# Altium footprint library TMM-125-XX-XX-D-SM.PcbLib: 1 footprints
Each footprint in its own frame and in the unit in brackets; x right, y up, seen from the top. Pads: shape width x height; smd on the part's side, far side on the other; paste and mask are expansions set on the pad; w line width, h text height; cw(c..) or ccw(c..) is an arc to the next point about the centre after c.
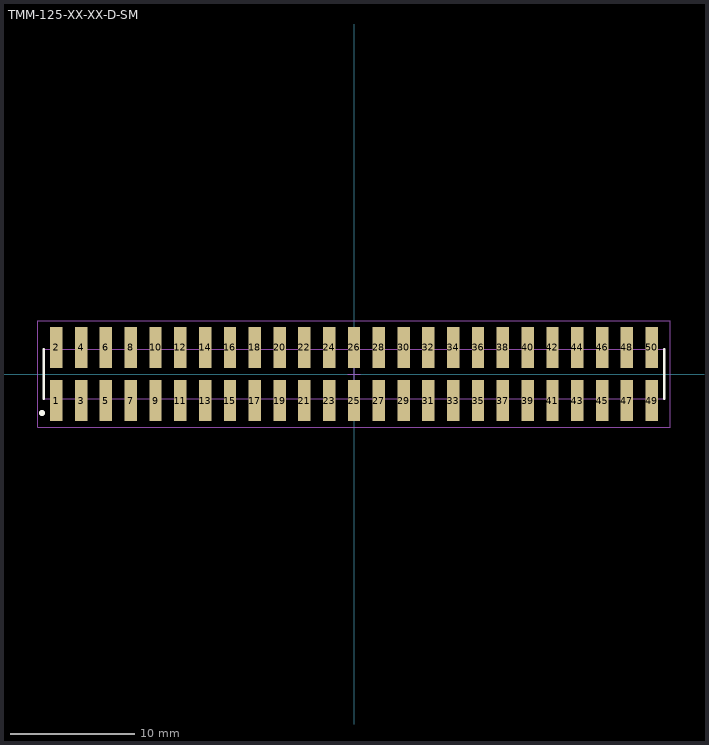
[diagram p0: the footprint, top view; thin cyan lines are the x and y axes]

## TMM-125-XX-XX-D-SM [mm] "2.00mm pitch, 50 pin, terminal strip; double row, SMT"
height 2.77
pads (50):
  rect 1x3.3 smd mask+0: 1(-24,-2.15) 2(-24,2.15) 3(-22,-2.15) 4(-22,2.15) 5(-20,-2.15) 6(-20,2.15) 7(-18,-2.15) 8(-18,2.15) 9(-16,-2.15) 10(-16,2.15) 11(-14,-2.15) 12(-14,2.15) 13(-12,-2.15) 14(-12,2.15) 15(-10,-2.15) 16(-10,2.15) 17(-8,-2.15) 18(-8,2.15) 19(-6,-2.15) 20(-6,2.15) 21(-4,-2.15) 22(-4,2.15) 23(-2,-2.15) 24(-2,2.15) 25(0,-2.15) 26(0,2.15) 27(2,-2.15) 28(2,2.15) 29(4,-2.15) 30(4,2.15) 31(6,-2.15) 32(6,2.15) 33(8,-2.15) 34(8,2.15) 35(10,-2.15) 36(10,2.15) 37(12,-2.15) 38(12,2.15) 39(14,-2.15) 40(14,2.15) 41(16,-2.15) 42(16,2.15) 43(18,-2.15) 44(18,2.15) 45(20,-2.15) 46(20,2.15) 47(22,-2.15) 48(22,2.15) 49(24,-2.15) 50(24,2.15)
Top Overlay:
  circle w0.25: c-25.15,-3.15 r0.125
  lines w0.2: -25,-2 -25,2 ; 25,-2 25,2
Mechanical 12:
  lines w0.001: -25,-2 -25,2 25,2 25,-2 -25,-2
Mechanical 13:
  lines w0.1: -25,-2 -25,2 25,2 25,-2 -25,-2
  text ".Designator" at 0,-0.127 h1.52
Mechanical 15:
  lines w0.05: -0.5,0 0.5,0 ; 0,-0.5 0,0.5 ; -25.5,-4.3 -25.5,4.3 25.5,4.3 25.5,-4.3 -25.5,-4.3